# Altium schematic symbol library QUTMS_OpAmps.SchLib: 1 symbol
Pins are listed as number, name and electrical type; pins without a type are passive.

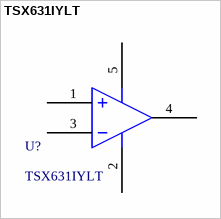
[diagram p0: symbol TSX631IYLT]

## TSX631IYLT
designator U?
General Purpose Amplifier 1 Circuit Rail-to-Rail SOT-23-5
footprint SOT-23-5
pins: 1, 2, 3, 4, 5